# EAGLE library part MIC2951* (library my_relai)
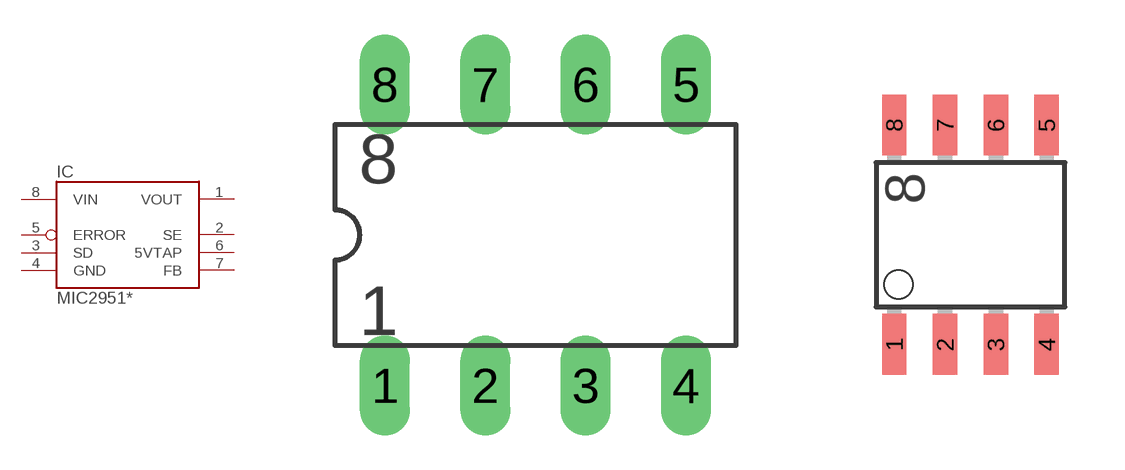
[diagram p7: symbol with the pads of DIL08-2; footprints DIL08-2, SO8]

Designator prefix IC

## MIC2951-01AJ  [DIL08-2]
1  VOUT  sup
2  SE  in
3  SD  in
4  GND  pwr
5  ERROR  out
6  5VTAP  out
7  FB  in
8  VIN  pwr

## MIC2951-02BM, MIC2951-03BM, MIC2951-3.3BM, MIC2951-4.8BM  [SO8]
Pads as for DIL08-2

## MIC2951-01AJB  [DIL08-2]
Pads as for DIL08-2

## MIC2951-02BJ, MIC2951-03BJ  [DIL08-2]
Pads as for DIL08-2

## MIC2951-02BN, MIC2951-03BN  [DIL08-2]
Pads as for DIL08-2

## Footprint DIL08-2 (pad centres in mm)
DIL08-2
drill 0.305 pad 1.27 long: 1 -3.81,-3.81; 2 -1.27,-3.81; 3 1.27,-3.81; 4 3.81,-3.81; 5 3.81,3.81; 6 1.27,3.81; 7 -1.27,3.81; 8 -3.81,3.81

## Footprint SO8 (pad centres in mm)
smd 0.61 x 1.524: 1 -1.905,-2.743; 2 -0.635,-2.743; 3 0.635,-2.743; 4 1.905,-2.743; 5 1.905,2.743; 6 0.635,2.743; 7 -0.635,2.743; 8 -1.905,2.743